# Altium schematic symbol library Connectors, Off-Board.SchLib: 1 symbol
Pins are listed as number, name and electrical type; pins without a type are passive.

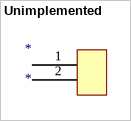
[diagram p0: symbol Unimplemented]

## Unimplemented
designator *  (mechanical)
pins: 1, 2